# Altium footprint library PcbLib1.PcbLib: 14 footprints
Each footprint in its own frame and in the unit in brackets; x right, y up, seen from the top. Pads: shape width x height; smd on the part's side, far side on the other; paste and mask are expansions set on the pad; w line width, h text height; cw(c..) or ccw(c..) is an arc to the next point about the centre after c.
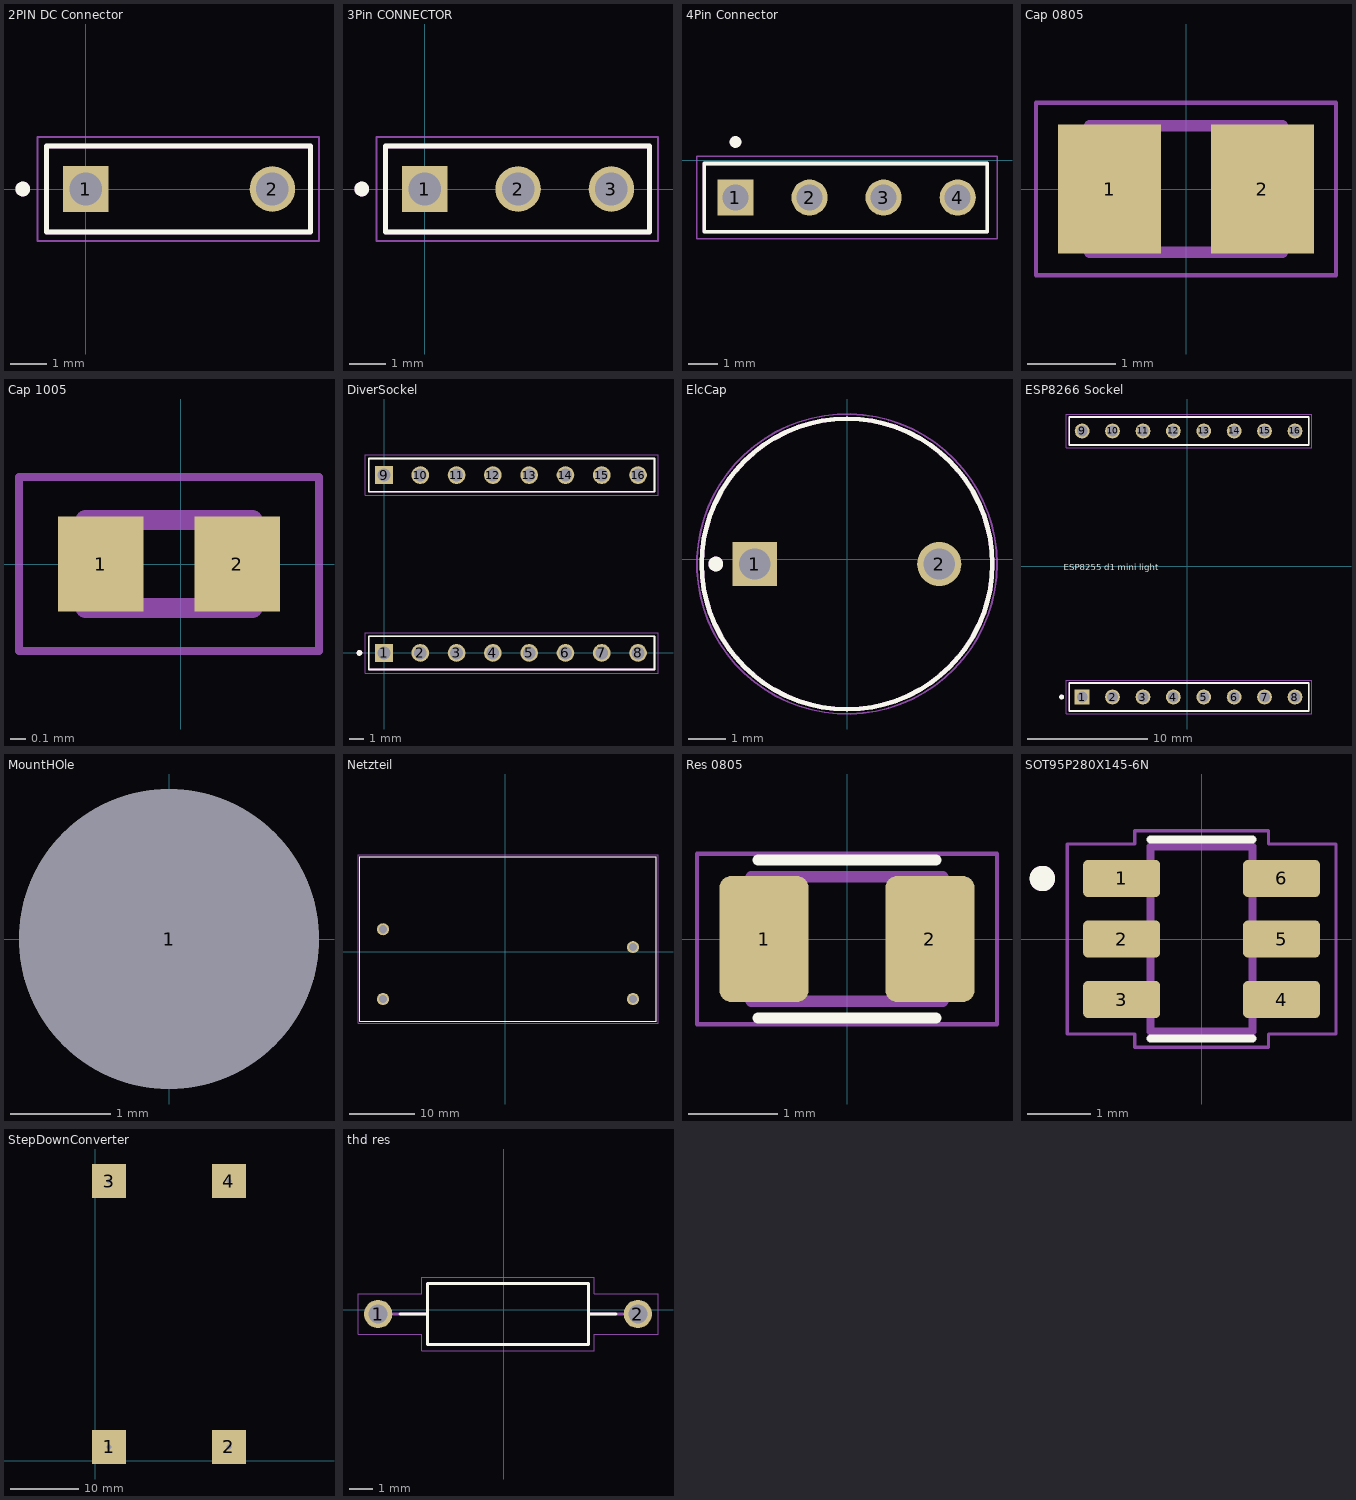
[diagram p0: the footprints below, top view; thin cyan lines are the x and y axes]

## 2PIN DC Connector [mm]
pads (2):
  rect 1.24x1.24 hole 0.89: 1(0,0)
  round 1.24 hole 0.89: 2(5.08,0)
Top Overlay:
  circle w0.2: c-1.72,0 r0.1
  lines w0.127: 6.119,-1.175 6.119,1.165 ; 6.119,-1.17 -1.07,-1.17 -1.07,1.17 6.119,1.17
Mechanical 13:
  circle w0.2: c-1.72,0 r0.1
  lines w0.127: 3.61,-1.17 -1.07,-1.17 ; -1.07,-1.17 -1.07,1.17 6.119,1.17 6.119,-1.17 -1.07,-1.17
Mechanical 15:
  lines w0.05: -1.32,-1.42 -1.32,1.42 6.35,1.42 6.35,-1.42 -1.32,-1.42

## 3Pin CONNECTOR [mm]
pads (3):
  rect 1.24x1.24 hole 0.89: 1(0,0)
  round 1.24 hole 0.89: 2(2.54,0) 3(5.08,0)
Top Overlay:
  circle w0.2: c-1.72,0 r0.1
  lines w0.127: 6.119,-1.175 6.119,1.165 ; 6.119,-1.17 -1.07,-1.17 -1.07,1.17 6.119,1.17
Mechanical 13:
  circle w0.2: c-1.72,0 r0.1
  lines w0.127: 3.61,-1.17 -1.07,-1.17 ; -1.07,-1.17 -1.07,1.17 6.119,1.17 6.119,-1.17 -1.07,-1.17
Mechanical 15:
  lines w0.05: -1.32,-1.42 -1.32,1.42 6.35,1.42 6.35,-1.42 -1.32,-1.42

## 4Pin Connector [mm]
pads (4):
  rect 1.24x1.24 hole 0.89: 1(12.954,-1.27)
  round 1.24 hole 0.89: 2(15.494,-1.27) 3(18.034,-1.27) 4(20.574,-1.27)
Top Overlay:
  circle w0.2: c12.954,0.635 r0.1
  lines w0.127: 11.884,-2.44 21.59,-2.44 21.59,-0.1 11.884,-0.1 11.884,-2.44
Mechanical 13:
  circle w0.2: c12.954,0.635 r0.1
  lines w0.127: 16.564,-2.44 11.884,-2.44 ; 11.884,-2.44 21.59,-2.44 21.59,-0.1 11.884,-0.1 11.884,-2.44
Mechanical 15:
  lines w0.05: 11.634,-2.69 21.921,-2.69 21.921,0.15 11.634,0.15 11.634,-2.69

## Cap 0805 [mm]
pads (2):
  rect 1.17x1.47 smd: 1(-0.871,0) 2(0.871,0)
Mechanical 13:
  lines w0.127: -1.1,-0.72 -1.1,0.72 1.1,0.72 1.1,-0.72 -1.1,-0.72
Mechanical 15:
  lines w0.05: -1.708,-0.983 -1.708,0.983 1.708,0.983 1.708,-0.983 -1.708,-0.983

## Cap 1005 [mm]
pads (2):
  rect 0.54x0.6 smd: 1(-0.508,0) 2(0.356,0)
Mechanical 13:
  lines w0.127: -0.606,-0.28 0.454,-0.28 0.454,0.28 -0.606,0.28 -0.606,-0.28
Mechanical 15:
  lines w0.05: -1.026,-0.55 0.874,-0.55 0.874,0.55 -1.026,0.55 -1.026,-0.55
3D body "step_temp.STEP": height 0.55, standoff 0, extent -0.576,-0.25 0.424,0.25

## DiverSockel [mm]
pads (16):
  rect 1.24x1.24 hole 0.89: 1(0,0) 9(0,12.446)
  round 1.24 hole 0.89: 2(2.54,0) 3(5.08,0) 4(7.62,0) 5(10.16,0) 6(12.7,0) 7(15.24,0) 8(17.78,0) 10(2.54,12.446) 11(5.08,12.446) 12(7.62,12.446) 13(10.16,12.446) 14(12.7,12.446) 15(15.24,12.446) 16(17.78,12.446)
Top Overlay:
  circle w0.2: c-1.72,0 r0.1
  lines w0.127: -1.07,-1.17 18.923,-1.17 18.923,1.17 -1.07,1.17 -1.07,-1.17 ; -1.07,11.276 18.923,11.276 18.923,13.616 -1.07,13.616 -1.07,11.276
Mechanical 13:
  circle w0.2: c-1.72,0 r0.1
  lines w0.127: 3.61,-1.17 -1.07,-1.17 ; 3.61,11.276 -1.07,11.276 ; -1.07,-1.17 18.923,-1.17 18.923,1.17 -1.07,1.17 -1.07,-1.17 ; -1.07,11.276 18.923,11.276 18.923,13.616 -1.07,13.616 -1.07,11.276
Mechanical 15:
  lines w0.05: -1.32,-1.42 19.177,-1.42 19.177,1.42 -1.32,1.42 -1.32,-1.42 ; -1.32,11.026 19.177,11.026 19.177,13.866 -1.32,13.866 -1.32,11.026
3D body "PPTC081LFBN-RC--3DModel-STEP-56544.STEP": height 8.51, standoff -3.2, extent -1.524,11.049 19.304,13.589
3D body "A4988-1.STEP": height 18.42, standoff 2.46, extent -1.231,-1.42 19.089,13.82
3D body "PPTC081LFBN-RC--3DModel-STEP-56544.STEP": height 8.51, standoff -3.2, extent -1.524,-1.397 19.304,1.143

## ElcCap [mm]
pads (2):
  rect 1.2x1.2 hole 0.85: 1(-2.5,-0.127)
  round 1.2 hole 0.85: 2(2.5,-0.127)
Top Overlay:
  circle w0.127: c0,-0.127 r3.937
  circle w0.2: c-3.556,-0.127 r0.1
Mechanical 13:
  circle w0.127: c0,-0.127 r3.937
  circle w0.2: c-3.556,-0.127 r0.1
Mechanical 15:
  circle w0.05: c0,-0.127 r4.064

## ESP8266 Sockel [mm]
pads (16):
  rect 1.24x1.24 hole 0.89: 1(-8.763,-10.922)
  round 1.24 hole 0.89: 2(-6.223,-10.922) 3(-3.683,-10.922) 4(-1.143,-10.922) 5(1.397,-10.922) 6(3.937,-10.922) 7(6.477,-10.922) 8(9.017,-10.922) 9(-8.763,11.303) 10(-6.223,11.303) 11(-3.683,11.303) 12(-1.143,11.303) 13(1.397,11.303) 14(3.937,11.303) 15(6.477,11.303) 16(9.017,11.303)
Top Overlay:
  circle w0.2: c-10.483,-10.922 r0.1
  lines w0.127: -9.833,-12.092 10.16,-12.092 10.16,-9.752 -9.833,-9.752 -9.833,-12.092 ; -9.833,10.133 10.16,10.133 10.16,12.473 -9.833,12.473 -9.833,10.133
  text "ESP8255 d1 mini light" at -10.287,-0.339 h0.51
Mechanical 13:
  circle w0.2: c-10.483,-10.922 r0.1
  lines w0.127: -5.153,-12.092 -9.833,-12.092 ; -5.153,10.133 -9.833,10.133 ; -9.833,-12.092 10.16,-12.092 10.16,-9.752 -9.833,-9.752 -9.833,-12.092 ; -9.833,10.133 10.16,10.133 10.16,12.473 -9.833,12.473 -9.833,10.133
Mechanical 15:
  lines w0.05: -10.083,-12.342 10.414,-12.342 10.414,-9.502 -10.083,-9.502 -10.083,-12.342 ; -10.083,9.883 10.414,9.883 10.414,12.723 -10.083,12.723 -10.083,9.883
3D body "PPTC081LFBN-RC--3DModel-STEP-56544.STEP": height 8.51, standoff -3.2, extent -10.287,9.906 10.541,12.446
3D body "PPTC081LFBN-RC--3DModel-STEP-56544.STEP": height 8.51, standoff -3.2, extent -10.287,-12.319 10.541,-9.779
3D body "wemos-mini-d1.stp": height 15.37, standoff 0.43, extent -17.277,-12.646 17.023,13.154

## MountHOle [mm]
pads (1):
  round 3 hole 3: 1(0,0)

## Netzteil [mm] "IRM-05-5"
pads (4):
  round 1.86 hole 1.24: AC/L(-18.81,-7.278) AC/N(-18.81,3.472) VNEG(19.69,-7.278) VPOS(19.69,0.722)
Top Overlay:
  lines w0.127: -22.41,-10.728 -22.41,14.672 23.29,14.672 23.29,-10.728 -22.41,-10.728
Mechanical 13:
  lines w0.127: -22.41,-10.728 -22.41,14.672 23.29,14.672 23.29,-10.728 -22.41,-10.728
Mechanical 15:
  lines w0.05: -22.66,-10.978 -22.66,14.922 23.54,14.922 23.54,-10.978 -22.66,-10.978
3D body "IRM-05-5--3DModel-STEP-56544.STEP": height 21.5, standoff -4.5, extent -22.459,-10.668 23.241,14.732

## Res 0805 [mm]
pads (2):
  rrect25% 1x1.42 smd: 1(-0.935,0) 2(0.935,0)
Top Overlay:
  lines w0.127: -1,-0.89 1,-0.89 ; -1,0.89 1,0.89
Mechanical 13:
  lines w0.127: -1.08,-0.7 -1.08,0.7 1.08,0.7 1.08,-0.7 -1.08,-0.7
Mechanical 15:
  lines w0.05: -1.69,-0.96 -1.69,0.96 1.69,0.96 1.69,-0.96 -1.69,-0.96
3D body "step_temp.STEP": height 0.6, standoff 0, extent -1,-0.625 1,0.625

## SOT95P280X145-6N [mm]
pads (6):
  rrect25% 1.21x0.58 smd: 1(-1.255,0.95) 2(-1.255,0) 3(-1.255,-0.95) 4(1.255,-0.95) 5(1.255,0) 6(1.255,0.95)
Top Overlay:
  circle w0.2: c-2.5,0.95 r0.1
  lines w0.127: -0.8,-1.56 0.8,-1.56 ; -0.8,1.56 0.8,1.56
Mechanical 13:
  circle w0.2: c-2.5,0.95 r0.1
  lines w0.127: -0.8,-1.45 -0.8,1.45 0.8,1.45 0.8,-1.45 -0.8,-1.45
Mechanical 15:
  lines w0.05: -2.11,-1.49 -2.11,1.49 -1.05,1.49 -1.05,1.7 1.05,1.7 1.05,1.49 2.11,1.49 2.11,-1.49 1.05,-1.49 1.05,-1.7 -1.05,-1.7 -1.05,-1.49 -2.11,-1.49
3D body "BQ21040DBVT.STEP": height 1.45, standoff 0, extent -1.4,-1.45 1.4,1.45

## StepDownConverter [mm]
pads (4):
  rect 5x5 hole 0.762: 1(2,2) 2(19.59,2) 3(2,41) 4(19.59,41)
3D body "VOLTAGE REDUCER.STEP": height 13.21, standoff 0, extent 0,0 21.59,43.18

## thd res [mm]
pads (2):
  round 1.2 hole 0.8: 1(-5.324,-0.181) 2(5.676,-0.181)
Top Overlay:
  lines w0.127: -4.404,-0.181 -3.224,-0.181 ; 4.756,-0.181 3.576,-0.181 ; -3.224,-0.181 -3.224,1.119 3.576,1.119 3.576,-0.181 ; -3.224,-0.181 -3.224,-1.481 3.576,-1.481 3.576,-0.181
Mechanical 13:
  lines w0.127: -4.724,-0.181 -3.224,-0.181 ; 5.076,-0.181 3.576,-0.181 ; -3.224,-0.181 -3.224,1.119 3.576,1.119 3.576,-0.181 ; -3.224,-0.181 -3.224,-1.481 3.576,-1.481 3.576,-0.181
Mechanical 15:
  lines w0.05: -6.174,-1.031 -3.474,-1.031 -3.474,-1.731 3.826,-1.731 3.826,-1.031 6.526,-1.031 6.526,0.669 3.826,0.669 3.826,1.369 -3.474,1.369 -3.474,0.669 -6.174,0.669 -6.174,-1.031